# Altium schematic symbol library UOMP primitives.SchLib: 3 symbols
Pins are listed as number, name and electrical type; pins without a type are passive.

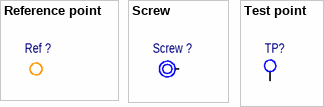
[diagram p0: symbols Reference point to Test point]

## Reference point
designator Ref ?
footprint REFERENCE POINT

## Screw
designator Screw ?
footprint SCREW M2
footprint SCREW M3
footprint SCREW M4
pins: 1

## Test point
designator TP?  (net tie)
footprint Test Point
pins: 1